# Altium integrated library Discrete_semiconductors.IntLib: 118 symbols (part 2 of 2)
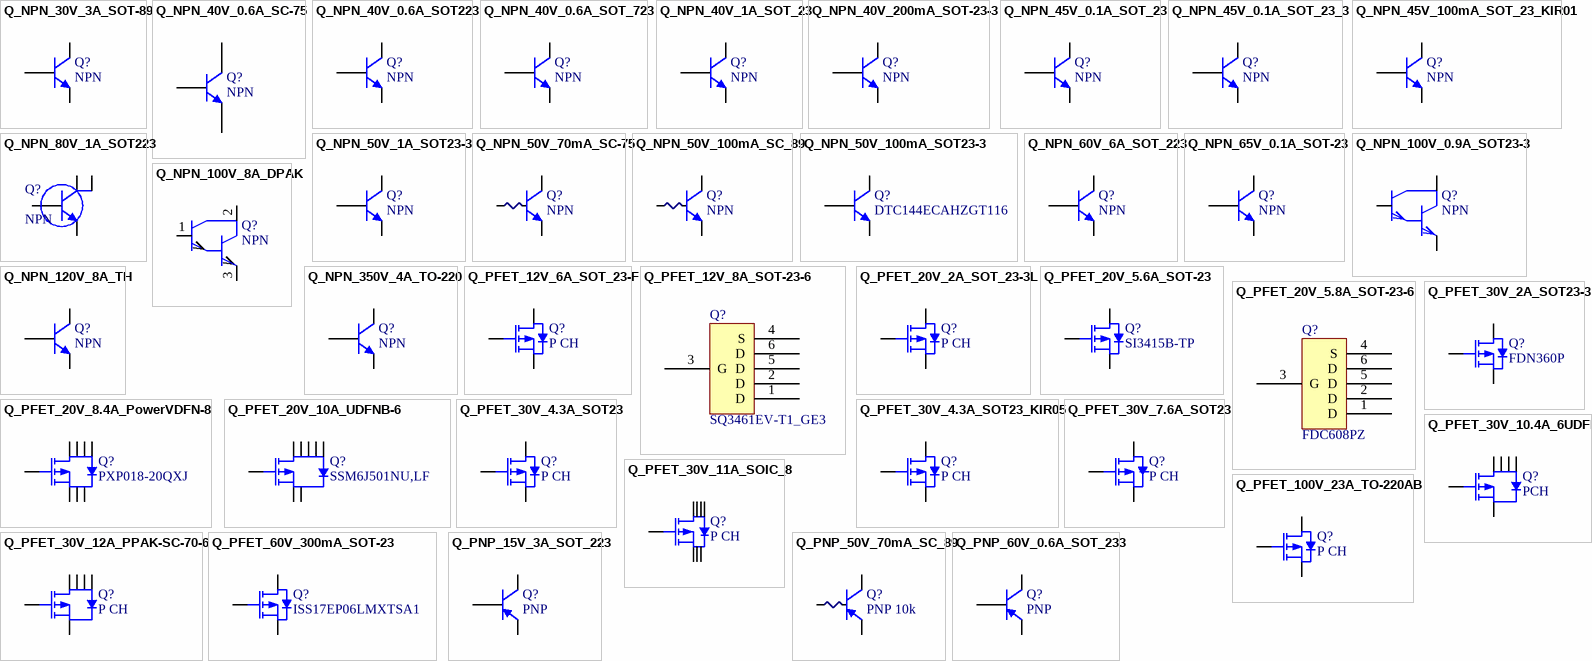
[diagram p3: symbols Q_NPN_30V_3A_SOT-89 to Q_PNP_60V_0.6A_SOT_233]

## Q_NPN_50V_100mA_SOT23-3
designator Q?, comment DTC144ECAHZGT116
NPN 100MA 50V DIGITAL TRANSISTOR; Manufacturer: Rohm Semiconductor; Manufacturer Part Number: DTC144ECAHZGT116; Supplier 1: Digi-Key; Supplier Part Number 1: DTC144ECAHZGT116CT-ND; Reel Stock: N/A; Last modified by: J.Jaramillo; Last modified date: 20240310; ComponentLink1Description: Digi-Key; ComponentLink1URL: https://www.digikey.com/en/products/detail/rohm-semiconductor/DTC144ECAHZGT116/8028199
footprint SOT_23_3 (TO-236-3, SC-59/ 20190613 / J-P.Vargas.A)
pins: 1 B, 2 E, 3 C

## Q_NPN_60V_6A_SOT_223
designator Q?, comment NPN
TRANS NPN 60V 6A SOT-223; Manufacturer: ON Semiconductor; Manufacturer Part Number: NSS60601MZ4T3G; Supplier 1: Digi-Key; Supplier Part Number 1: NSS60601MZ4T3GOSCT-ND; Reel Stock: N/A; Last modified by: J.Jaramillo; Last modified date: 20240310; ComponentLink1Description: Digi-Key; ComponentLink1URL: https://www.digikey.com/product-detail/en/on-semiconductor/NSS60601MZ4T3G/NSS60601MZ4T3GOSCT-ND/9087495
footprint TO_261_4 (TO-261AA, SOT-223 / 20190225 / C-A.Serna.A)
pins: 1 B, 2 C, 3 E

## Q_NPN_65V_0.1A_SOT-23
designator Q?, comment NPN
TRANS NPN 65V 0.1A SOT-23; Manufacturer: ON Semiconductor; Manufacturer Part Number: BC846ALT3G; Supplier 1: Digi-Key; Supplier Part Number 1: BC846ALT3GOSCT-ND; Reel Stock: N/A; Last modified by: J.Jaramillo; Last modified date: 20240310; ComponentLink1Description: Digi-Key; ComponentLink1URL: https://www.digikey.com/products/en?keywords=BC846ALT3GOSCT-ND
footprint SOT_23_3 (TO-236-3, SC-59/ 20190613 / J-P.Vargas.A)
pins: 1 B, 2 C, 3 E

## Q_NPN_80V_1A_SOT223
designator Q?, comment NPN
TRANS NPN 80V 1A SOT223; Manufacturer: Nexperia USA Inc.; Manufacturer Part Number: BCP56-16TF; Supplier 1: Digi-Key; Supplier Part Number 1: 1727-7617-1-ND; Reel Stock: N/A; Last modified by: J.Jaramillo; Last modified date: 20240310; ComponentLink1Description: Digi-Key; ComponentLink1URL: https://www.digikey.com/en/products/detail/nexperia-usa-inc/BCP56-16TF/7495579?s=N4IgTCBcDaIEIGEAKBWAbAWgIxoCoDEQBdAXyA
footprint SOT-223 (/20221117/J-A.Sepulveda)
pins: 1 B, 2 C, 3 E, 4 C

## Q_NPN_100V_0.9A_SOT23-3
designator Q?, comment NPN
TRANS NPN DARL 100V 0.9A SOT23-3; Manufacturer: Diodes Incorporated; Manufacturer Part Number: FMMT634QTA; Supplier 1: Digi-Key; Supplier Part Number 1: FMMT634QTADICT-ND; Reel Stock: N/A; Last modified by: J.Jaramillo; Last modified date: 20240310; ComponentLink1Description: Digi-Key; ComponentLink1URL: https://www.digikey.com/en/products/detail/diodes-incorporated/FMMT634QTA/4868753?s=N4IgTCBcDaIGIFkEBUBsBmALARWQQRAF0BfIA
footprint SOT_23_3 (TO-236-3, SC-59/ 20190613 / J-P.Vargas.A)
pins: 1 b, 2 e, 3 c

## Q_NPN_100V_8A_DPAK
designator Q?, comment NPN
TRANS NPN 100V 8A DPAK; Manufacturer: Changjiang Electronics Tech (CJ); Manufacturer Part Number: MJD122; Supplier 1: LCSC; Supplier Part Number 1: C59488; Reel Stock: N/A; Last modified by: J.Jaramillo; Last modified date: 20240310; ComponentLink1Description: LCSC; ComponentLink1URL: https://lcsc.com/product-detail/Darlington-Transistors_Changjiang-Electronics-Tech-CJ-MJD122_C59488.html
footprint D-PAK (/20200110/V-A.Patino)
pins: 1 b, 2 c, 3 e

## Q_NPN_120V_8A_TH
designator Q?, comment NPN
TRANS NPN 120V 8A TO3P; Manufacturer: Sanken; Manufacturer Part Number: 2SC4467; Supplier 1: Digi-key; Supplier Part Number 1: 2SC4467-ND; Reel Stock: N/A; Last modified by: J.Jaramillo; Last modified date: 20240310; ComponentLink1Description: Digi-key; ComponentLink1URL: https://www.digikey.com/en/products/detail/sanken/2SC4467/3929397?s=N4IgTCBcDa4MoGEAsSBsB2AtAOQCIgF0BfIA
footprint TO_3P (/20220523/F-A.Ospina)
pins: 1 B, 2 C, 3 E

## Q_NPN_350V_4A_TO-220
designator Q?, comment NPN
TRANS NPN 350V 4A TO220; Manufacturer: STMicroelectronics; Manufacturer Part Number: ST901T; Supplier 1: Digi-Key; Supplier Part Number 1: 497-7461-5-ND; Reel Stock: N/A; Last modified by: J.Jaramillo; Last modified date: 20240310; ComponentLink1Description: Digi-Key; ComponentLink1URL: https://www.digikey.com/products/en?keywords=497-7461-5-ND
footprint TO-220AB (TO-220AB / 20200623 / C-E.Rincon)
footprint TO-220AB (TO-220AB / 20200623 / C-E.Rincon)
pins: 1 B, 2 C, 3 E

## Q_PFET_12V_6A_SOT_23-F
designator Q?, comment P CH
MOSFET P-CH 12V 6A SOT23F; Manufacturer: Toshiba Semiconductor and Storage; Manufacturer Part Number: SSM3J338R,LF; Reel Stock: N/A; Supplier 1: Digi-key; Supplier Part Number 1: SSM3J338RLFCT-ND; Last modified by: J.Jaramillo; Last modified date: 20240310; ComponentLink1Description: Digikey; ComponentLink1URL: https://www.digikey.com/en/products/detail/toshiba-semiconductor-and-storage/SSM3J338R-LF/5810226
footprint SOT_23F (/ 20220728 / F-A.Ospina)
pins: 1 G, 2 S, 3 D

## Q_PFET_12V_8A_SOT-23-6
designator Q?, comment SQ3461EV-T1_GE3
MOSFET P-CHANNEL 12V 8A 6TSOP; Manufacturer: Vishay Siliconix; Manufacturer Part Number: SQ3461EV-T1_GE3; Supplier 1: Digi-Key; Supplier Part Number 1: SQ3461EV-T1_GE3CT-ND; Reel Stock: N/A; Last modified by: J.Jaramillo; Last modified date: 20240310; ComponentLink1Description: Digi-Key; ComponentLink1URL: https://www.digikey.com/en/products/detail/vishay-siliconix/SQ3461EV-T1-GE3/7566745?s=N4IgTCBcDaIMoEUDMAWAbARgKIDUC0AKhgPoDiWSIAugL5A
footprint SOT_23_6 (/ 20220107 / J-E.Pachon)
pins: 1 D, 2 D, 3 G, 4 S, 5 D, 6 D

## Q_PFET_20V_2A_SOT_23-3L
designator Q?, comment P CH
MOSFET P-CH 20V 2A SOT23-3L; Manufacturer: Alpha & Omega Semiconductor Inc.; Manufacturer Part Number: AO3423; Reel Stock: N/A; Supplier 1: Digi-key; Supplier Part Number 1: 785-1016-1-ND; Last modified by: J.Jaramillo; Last modified date: 20240310; ComponentLink1Description: Digikey; ComponentLink1URL: https://www.digikey.com/en/products/detail/alpha-omega-semiconductor-inc/AO3423/1855788?s=N4IgTCBcDaIOwA4CsBaAjABjQNnSgcgCIgC6AvkA
footprint SOT_23_3 (TO-236-3, SC-59/ 20190613 / J-P.Vargas.A)
pins: 1 G, 2 S, 3 D

## Q_PFET_20V_5.6A_SOT-23
designator Q?, comment SI3415B-TP
P-CHANNEL MOSFET, SOT-23; Manufacturer: Micro Commercial Co; Manufacturer Part Number: SI3415B-TP; Supplier 1: Digi-Key; Supplier Part Number 1: 353-SI3415B-TPCT-ND; Reel Stock: N/A; Last modified by: J.Jaramillo; Last modified date: 20240310; ComponentLink1Description: Digi-Key; ComponentLink1URL: https://www.digikey.com/en/products/detail/micro-commercial-co/SI3415B-TP/13689695?s=N4IgTCBcDaIMoEkDMAWAjAVgEIFoAqACiALoC%2BQA
footprint SOT_23_3 (TO-236-3, SC-59/ 20190613 / J-P.Vargas.A)
pins: 1 G, 2 S, 3 D

## Q_PFET_20V_5.8A_SOT-23-6
designator Q?, comment FDC608PZ
MOSFET P-CH 20V 5.8A SUPERSOT6; Manufacturer: onsemi; Manufacturer Part Number: FDC608PZ; Supplier 1: Digi-Key; Supplier Part Number 1: FDC608PZCT-ND; Reel Stock: N/A; Last modified by: J.Jaramillo; Last modified date: 20240310; ComponentLink1Description: Digi-Key; ComponentLink1URL: https://www.digikey.com/en/products/detail/onsemi/FDC608PZ/1287244
footprint SOT_23_6 (/ 20220107 / J-E.Pachon)
pins: 1 D, 2 D, 3 G, 4 S, 5 D, 6 D

## Q_PFET_20V_8.4A_PowerVDFN-8
designator Q?, comment PXP018-20QXJ
PXP018-20QX/SOT8002/MLPAK33; Manufacturer: Nexperia USA Inc.; Manufacturer Part Number: PXP018-20QXJ; Supplier 1: Digi-Key; Supplier Part Number 1: 1727-PXP018-20QXJCT-ND; Reel Stock: N/A; Last modified by: J.Jaramillo; Last modified date: 20240310; ComponentLink1Description: Digi-Key; ComponentLink1URL: https://www.digikey.com/en/products/detail/nexperia-usa-inc/PXP018-20QXJ/13689938
footprint PowerVDFN-8 (20220425 / E.Naranjo)
pins: 1 S, 2 S, 3 S, 4 G, 5 D, 6 D, 7 D, 8 D

## Q_PFET_20V_10A_UDFNB-6
designator Q?, comment SSM6J501NU,LF
MOSFET P-CH 20V 10A 6UDFNB; Manufacturer: Toshiba Semiconductor and Storage; Manufacturer Part Number: SSM6J501NU,LF; Supplier 1: Digi-Key; Supplier Part Number 1: SSM6J501NULFCT-ND; Reel Stock: N/A; Last modified by: J.Jaramillo; Last modified date: 20240310; ComponentLink1Description: Digi-Key; ComponentLink1URL: https://www.digikey.com/en/products/detail/toshiba-semiconductor-and-storage/SSM6J501NU-LF/3191299
footprint UDFNB_6_2x2MM_EP (WDFN_6_EP/20220428/V-A.Patino)
pins: 1 D, 2 D, 3 G, 4 S, 5 D, 6 D, 7 S, 8 D

## Q_PFET_30V_2A_SOT23-3
designator Q?, comment FDN360P
SMALL SIGNAL FIELD-EFFECT TRANSI; Manufacturer: Fairchild Semiconductor; Manufacturer Part Number: FDN360P; Supplier 1: Digi-Key; Supplier Part Number 1: 2156-FDN360P-ND; Reel Stock: N/A; Last modified by: J.Jaramillo; Last modified date: 20240310; ComponentLink1Description: Digi-Key; ComponentLink1URL: https://www.digikey.com/en/products/detail/rochester-electronics-llc/FDN360P/13450792
footprint SOT_23_3 (TO-236-3, SC-59/ 20190613 / J-P.Vargas.A)
pins: 1 G, 2 S, 3 D

## Q_PFET_30V_4.3A_SOT23
designator Q?, comment P CH
MOSFET P-CH 30V 4.3A SOT23; Manufacturer: Alpha & Omega Semiconductor Inc.; Manufacturer Part Number: AO3407A; Reel Stock: N/A; Supplier 1: Digi-key; Supplier Part Number 1: 785-1006-1-ND; Last modified by: J.Jaramillo; Last modified date: 20240310; ComponentLink1Description: Digi-key; ComponentLink1URL: https://www.digikey.com/product-detail/en/alpha-omega-semiconductor-inc/AO3407A/785-1006-1-ND/1855948
footprint SOT_23_3 (TO-236-3, SC-59/ 20190613 / J-P.Vargas.A)
pins: 1 G, 2 S, 3 D

## Q_PFET_30V_4.3A_SOT23_KIR05
designator Q?, comment P CH
MOSFET P-CH 30V 4.3A SOT23; Manufacturer: KIA Semiconductors; Manufacturer Part Number: KIA3407A; Reel Stock: N/A; Supplier 1: Poshton; Supplier Part Number 1: KIA3407A; Last modified by: J.Jaramillo; Last modified date: 20240310; ComponentLink1Description: datasheet; ComponentLink1URL: https://xonstorage.blob.core.windows.net/pdf/kia_semicon_tech_kia3407a.pdf
footprint SOT_23_3 (TO-236-3, SC-59/ 20190613 / J-P.Vargas.A)
pins: 1 G, 2 S, 3 D

## Q_PFET_30V_7.6A_SOT23
designator Q?, comment P CH
MOSFET P-CH 30V 7.6A TO-236; Manufacturer: Vishay Siliconix; Manufacturer Part Number: SI2369DS-T1-GE3; Reel Stock: N/A; Supplier 1: Digi-key; Supplier Part Number 1: SI2369DS-T1-GE3CT-ND; Last modified by: J.Jaramillo; Last modified date: 20201030; ComponentLink1Description: Digi-key; ComponentLink1URL: https://www.digikey.com/en/products/detail/vishay-siliconix/SI2369DS-T1-GE3/4327735
footprint SOT_23_3 (TO-236-3, SC-59/ 20190613 / J-P.Vargas.A)
pins: 1 G, 2 S, 3 D

## Q_PFET_30V_10.4A_6UDFN
designator Q?, comment PCH
MOSFET P-CH 30V 10.4A 6UDFN; Manufacturer: Diodes Incorporated; Manufacturer Part Number: DMP3026SFDE-7; Supplier 1: Digi-Key; Supplier Part Number 1: 31-DMP3026SFDE-7CT-ND; Reel Stock: N/A; Last modified by: J.Jaramillo; Last modified date: 20240310; ComponentLink1Description: Digi-Key; ComponentLink1URL: https://www.digikey.com/en/products/detail/diodes-incorporated/DMP3026SFDE-7/7352976
footprint UDFN2020-6 (20220601 / E.Naranjo)
pins: 1 D, 2 D, 3 G, 4, 5 D, 6 D

## Q_PFET_30V_11A_SOIC_8
designator Q?, comment P CH
MOSFET P-CH 30V 11A 8SOIC; Manufacturer: Alpha & Omega Semiconductor Inc.; Manufacturer Part Number: AOSP21321; Supplier 1: Digi-key; Supplier Part Number 1: 785-1795-1-ND; Last modified by: J.Jaramillo; Last modified date: 20240310; ComponentLink1Description: Digi-Key; ComponentLink1URL: https://www.digikey.com/en/products/detail/alpha-omega-semiconductor-inc/AOSP21321/9664180; Reel Stock: N/A
footprint SOIC_8_3.9mm (/ 20210217 / V-A.Patino)
pins: 1 S, 2 S, 3 S, 4 G, 5 D, 6 D, 7 D, 8 D

## Q_PFET_30V_12A_PPAK-SC-70-6
designator Q?, comment P CH
MOSFET P-CH 30V 12A PPAK SC70-6; Manufacturer: Vishay Siliconix; Manufacturer Part Number: SIA449DJ-T1-GE3; Supplier 1: Digi-Key; Supplier Part Number 1: SIA449DJ-T1-GE3CT-ND; Reel Stock: N/A; Last modified by: J.Jaramillo; Last modified date: 20240310; ComponentLink1Description: Digi-Key; ComponentLink1URL: https://www.digikey.com/en/products/detail/vishay-siliconix/SIA449DJ-T1-GE3/3877741?s=N4IgTCBcDaIMoEkCCAWFBOAIgKQLQBUBGXAcQFEBmEAXQF8g
footprint PPAK_SC_70_6 (20220818 / E.Naranjo)
pins: 1 D, 2 D, 3 G, 4, 5 D, 6 D

## Q_PFET_60V_300mA_SOT-23
designator Q?, comment ISS17EP06LMXTSA1
MOSFET P-CH 60V 300MA SOT23-3; Manufacturer: Infineon Technologies; Manufacturer Part Number: ISS17EP06LMXTSA1; Supplier 1: Digi-Key; Supplier Part Number 1: 448-ISS17EP06LMXTSA1CT-ND; Reel Stock: N/A; Last modified by: J.Jaramillo; Last modified date: 20240310; ComponentLink1Description: Digi-Key; ComponentLink1URL: https://www.digikey.com/en/products/detail/infineon-technologies/ISS17EP06LMXTSA1/10058810?s=N4IgTCBcDaIJIGUEEYDsBRACgBgGwBkBZADQBUEBBZEAXQF8g
footprint SOT_23_3 (TO-236-3, SC-59/ 20190613 / J-P.Vargas.A)
pins: 1 G, 2 S, 3 D

## Q_PFET_100V_23A_TO-220AB
designator Q?, comment P CH
MOSFET P-CH 100V 23A TO-220AB; Manufacturer: Infineon Technologies; Manufacturer Part Number: IRF9540NPBF; Reel Stock: N/A; Supplier 1: Digi-key; Supplier Part Number 1: IRF9540NPBF-ND; Last modified by: J.Jaramillo; Last modified date: 20240310; ComponentLink1Description: Digikey; ComponentLink1URL: https://www.digikey.com/products/en?keywords=IRF9540NPBF
footprint TO-220AB (TO-220AB / 20200623 / C-E.Rincon)
footprint TO-220AB (TO-220AB / 20200623 / C-E.Rincon)
pins: 1 G, 2 D, 3 S

## Q_PNP_15V_3A_SOT_223
designator Q?, comment PNP
TRANS PNP 15V 3A SOT-223; Manufacturer: Diodes Incorporated; Manufacturer Part Number: FZT788BTA; Reel Stock: N/A; Last modified by: J.Jaramillo; Last modified date: 20240310; ComponentLink1Description: Digi-Key; ComponentLink1URL: https://www.digikey.tw/products/en?keywords=FZT788BCT-ND; Supplier 1: Digi-Key; Supplier Part Number 1: FZT788BCT-ND
footprint TO_261_4 (TO-261AA, SOT-223 / 20190225 / C-A.Serna.A)
pins: 1 B, 2 C, 3 E

## Q_PNP_50V_70mA_SC_89
designator Q?, comment PNP 10k
TRANS PREBIAS PNP 50V 0.15W SC89; Manufacturer: Rohm Semiconductor; Manufacturer Part Number: DTA014YEBTL; Reel Stock: N/A; Supplier 1: Digi-key; Supplier Part Number 1: DTA014YEBTLTR-ND; Last modified by: J.Jaramillo; Last modified date: 20240310; ComponentLink1Description: Digi-Key; ComponentLink1URL: https://www.digikey.ca/product-detail/en/rohm-semiconductor/DTA014YEBTL/DTA014YEBTLTR-ND/5019062
footprint SC_89_3 (SC-89, SOT-490 / 20190225 / C-A.Serna.A)
pins: 1 B, 2 E, 3 C

## Q_PNP_60V_0.6A_SOT_233
designator Q?, comment PNP
TRANS PNP 60V 0.6A SOT23-3; Manufacturer: Diodes Incorporated; Manufacturer Part Number: MMBT2907A-7-F; Reel Stock: N/A; Last modified by: J.Jaramillo; Last modified date: 20240310; ComponentLink1Description: Digi-Key; ComponentLink1URL: https://www.digikey.com/en/products/detail/diodes-incorporated/MMBT2907A-7-F/814501?s=N4IgTCBcDaILJwEIBUwE4AMB2AggWgDEARASWQCU8A5IkAXQF8g; Supplier 1: Digi-Key; Supplier Part Number 1: MMBT2907A-FDICT-ND
footprint SOT_23_3 (TO-236-3, SC-59/ 20190613 / J-P.Vargas.A)
pins: 1 B, 2 E, 3 C